# Altium schematic symbol library MT29F8G08DAA.Schlib: 1 symbol
Pins are listed as number, name and electrical type; pins without a type are passive.

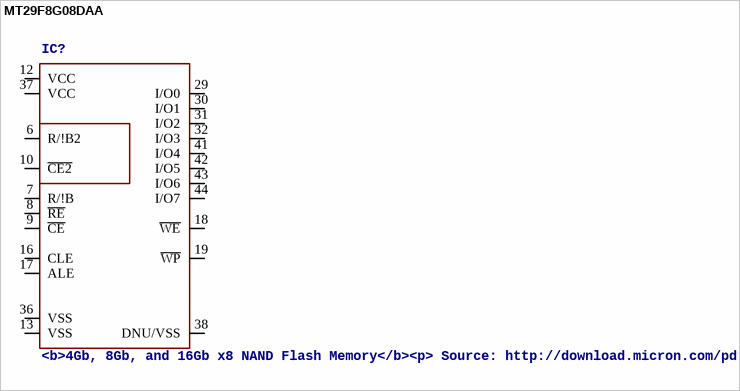
[diagram p0: symbol MT29F8G08DAA]

## MT29F8G08DAA
designator IC?, comment <b>4Gb, 8Gb, and 16Gb x8 NAND Flash Memory</b><p> / Source: http://download.micron.com/pdf/datasheets/flash/nand/4gb_nand_m40a.pdf
OC_FARNELL: unknown; OC_NEWARK: unknown
footprint TSOP48
pins: 6 R/!B2, 7 R/!B, 8 ~{RE}, 9 ~{CE}, 10 ~{CE2}, 12 VCC (power), 13 VSS (power), 16 CLE, 17 ALE, 18 ~{WE}, 19 ~{WP}, 25 DNU, 26 DNU, 29 I/O0, 30 I/O1, 31 I/O2, 32 I/O3, 36 VSS (power), 37 VCC (power), 38 DNU/VSS, 41 I/O4, 42 I/O5, 43 I/O6, 44 I/O7, 48 DNU